# Altium footprint library basic_pcb.PcbLib: 133 footprints (part 2 of 9)
Each footprint in its own frame and in the unit in brackets; x right, y up, seen from the top. Pads: shape width x height; smd on the part's side, far side on the other; paste and mask are expansions set on the pad; w line width, h text height; cw(c..) or ccw(c..) is an arc to the next point about the centre after c.
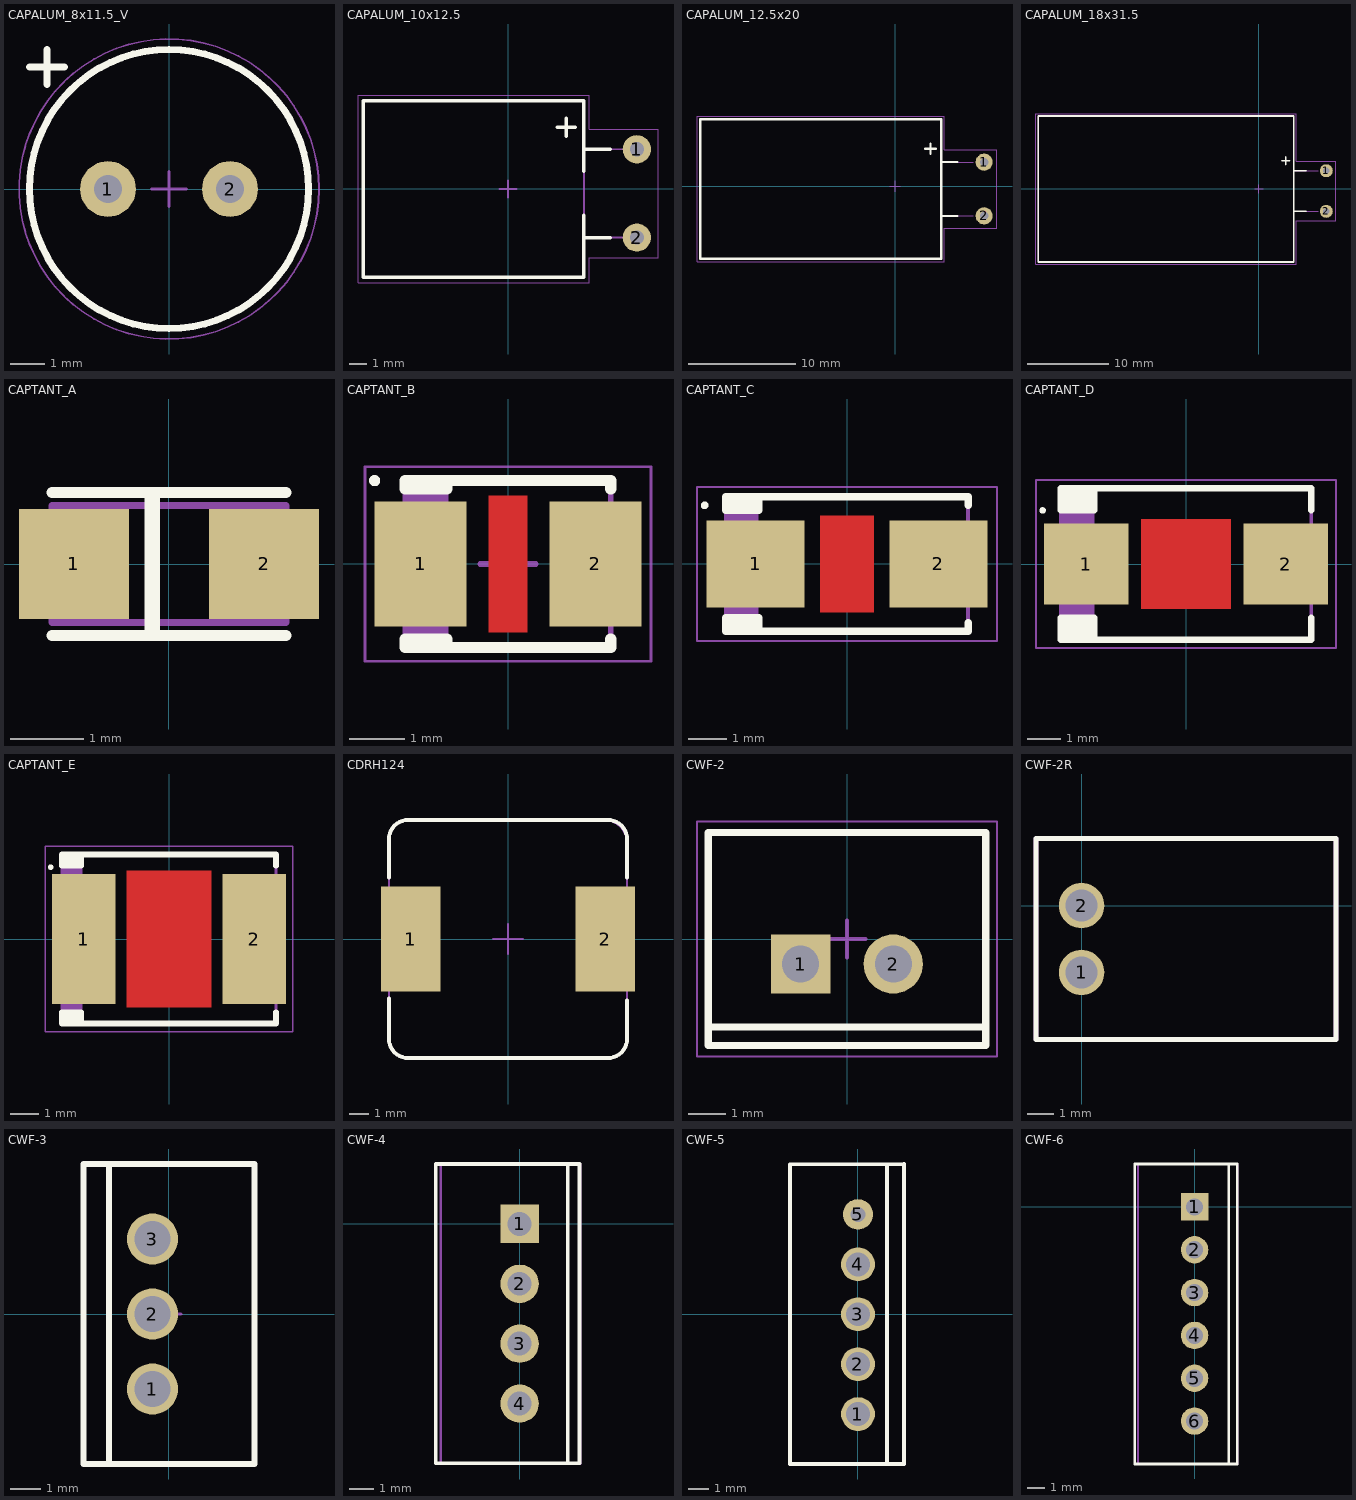
[diagram p1: the footprints below, top view; thin cyan lines are the x and y axes]

## CAPALUM_8x11.5_V [mm] "Ýëåêòðîëèòè÷åñêèé àëþìèíèåâûé êîíäåíñàòîð ñ ðàäèàëüíûìè âûâîäàìè 8*11.5ìì"
height 11.5
pads (2):
  round 1.6 hole 0.8: 1(-1.75,0) 2(1.75,0)
Top Overlay:
  circle w0.2: c0,0 r4
  lines w0.2: -4,3.5 -3,3.5 ; -3.5,3 -3.5,4
Top Value:
  text ".Comment" at -1.722,-1.874 h1.2
Top Designator:
  text ".Designator" at -2.578,1.165 h1.5
Top Component Outline:
  circle w0.1: c0,0 r4
Top Courtyard:
  circle w0.05: c0,0 r4.3
  lines w0.1: -0.5,0 0.5,0 ; 0,-0.5 0,0.5
3D body: height 4.3, standoff 3.7, extent 0.95,-0.3 1.55,0.3
3D body: height 4.3, standoff 3.7, extent -1.55,-0.302 -0.95,0.298
3D body: height 4, standoff -4, extent 0.95,-0.298 1.549,0.3
3D body: height 4, standoff -4, extent -1.55,-0.3 -0.951,0.298
3D body: height 11.5, standoff 0, extent -4,-3.994 4,3.994

## CAPALUM_10x12.5 [mm] "Ýëåêòðîëèòè÷åñêèé àëþìèíèåâûé êîíäåíñàòîð ñ ðàäèàëüíûìè âûâîäàìè 10*12.5ìì"
height 10
pads (2):
  round 1.6 hole 0.8: 1(7.3,2.25) 2(7.3,-2.75)
Top Overlay:
  lines w0.2: 2.798,3.5 3.798,3.5 ; 3.298,3 3.298,4 ; 4.3,-2.75 5.8,-2.75 ; 4.3,-1.5 4.3,-3 4.3,-5 -8.2,-5 -8.2,5 4.3,5 ; 4.3,1 4.3,3 4.3,4.998 ; 4.3,2.25 5.8,2.25
Top Value:
  text ".Comment" at -1.722,-1.474 h1.2
Top Designator:
  text ".Designator" at -2.578,0.865 h1.5
Top Component Outline:
  lines w0.1: -8.2,-4 -8.2,4 ; -7.2,-5 4.3,-5 ; -7.2,5 4.3,5 4.3,-4 ; 4.3,-2.75 7.3,-2.75 ; 4.3,2.25 7.3,2.25
Top Courtyard:
  lines w0.05: -8.5,-5.3 -8.5,5.3 4.6,5.3 4.6,3.4 8.5,3.4 8.5,-3.9 4.6,-3.9 4.6,-5.3 -8.5,-5.3
  lines w0.1: -0.5,0 0.5,0 ; 0,-0.5 0,0.5
3D body: height 9, standoff -1, extent -8.2,-4.993 4.3,4.994
3D body: height 4, standoff -4, extent 7,1.951 7.598,2.55
3D body: height 4, standoff -4, extent 7.002,-3.049 7.6,-2.45
3D body: height 4.3, standoff 3.7, extent 6.998,1.95 7.598,2.55
3D body: height 4.3, standoff 3.7, extent 7,-3.05 7.6,-2.45
3D body: height 4.3, standoff 3.7, extent 4.3,1.951 7.3,2.55
3D body: height 4.3, standoff 3.7, extent 4.3,-3.05 7.3,-2.45

## CAPALUM_12.5x20 [mm] "Ýëåêòðîëèòè÷åñêèé àëþìèíèåâûé êîíäåíñàòîð ñ ðàäèàëüíûìè âûâîäàìè 12.5*20ìì"
height 20
pads (2):
  round 1.6 hole 0.8: 1(8.3,2.25) 2(8.3,-2.75)
Top Overlay:
  lines w0.2: 2.798,3.5 3.798,3.5 ; 3.298,3 3.298,4 ; 4.3,-2.75 5.8,-2.75 ; 4.3,2.25 5.8,2.25 ; 4.3,4.998 4.3,3 4.3,-1.5 4.3,-3 4.3,-5 4.3,-6.75 -8.2,-6.75 -18.15,-6.75 -18.15,-5 -18.15,6.25 -8.2,6.25 4.3,6.25 4.3,5
Top Value:
  text ".Comment" at -1.722,-1.474 h1.2
Top Designator:
  text ".Designator" at -2.578,0.865 h1.5
Top Component Outline:
  lines w0.1: 4.3,-2.75 7.3,-2.75 ; 4.3,2.25 7.3,2.25 ; -18.15,-6.75 -18.15,-4 -18.15,4 -18.15,6.25 -7.2,6.25 4.3,6.25 4.3,5 4.3,-4 4.3,-6.75 -7.2,-6.75 -18.15,-6.75
Top Courtyard:
  lines w0.05: -18.45,-7.05 -18.45,-5.3 -18.45,5.3 -18.45,6.55 -8.5,6.55 4.6,6.55 4.6,5.3 4.6,3.4 9.5,3.4 9.5,-3.9 4.6,-3.9 4.6,-5.3 4.6,-7.05 -8.5,-7.05 -18.45,-7.05
  lines w0.1: -0.5,0 0.5,0 ; 0,-0.5 0,0.5
3D body: height 6.55, standoff 5.95, extent 4.3,-3.049 8.3,-2.45
3D body: height 6.55, standoff 5.95, extent 4.3,1.951 8.3,2.55
3D body: height 6.55, standoff 5.95, extent 8,-3.05 8.6,-2.45
3D body: height 6.55, standoff 5.95, extent 7.998,1.95 8.598,2.55
3D body: height 6.25, standoff -3, extent 8.003,-3.049 8.6,-2.45
3D body: height 6.25, standoff -3, extent 8,1.951 8.598,2.55
3D body "User Library-CapAluRadial_D125H200.STEP": height 12.75, standoff -0.25, extent -18.15,-6.75 6.85,6.25

## CAPALUM_18x31.5 [mm] "Ýëåêòðîëèòè÷åñêèé àëþìèíèåâûé êîíäåíñàòîð ñ ðàäèàëüíûìè âûâîäàìè 18*31.5ìì"
height 19
pads (2):
  round 1.6 hole 0.8: 1(8.3,2.25) 2(8.3,-2.75)
Top Overlay:
  lines w0.2: 2.798,3.5 3.798,3.5 ; 3.298,3 3.298,4 ; 4.3,-2.75 5.8,-2.75 ; 4.3,2.25 5.8,2.25 ; 4.3,4.998 4.3,3 4.3,-1.5 4.3,-3 4.3,-5 4.3,-9 -8.2,-9 -22.725,-9 -27.2,-9 -27.2,-5 -27.2,8.3 -27.2,9 -8.2,9 4.3,9 4.3,5
Top Value:
  text ".Comment" at -1.722,-1.474 h1.2
Top Designator:
  text ".Designator" at -2.578,0.865 h1.5
Top Component Outline:
  lines w0.1: 4.3,-2.75 7.3,-2.75 ; 4.3,2.25 7.3,2.25 ; -27.2,-9 -27.2,-4 -27.2,4 -27.2,9 -7.2,9 4.3,9 4.3,5 4.3,-4 4.3,-9 -7.2,-9 -27.2,-9
Top Courtyard:
  lines w0.05: -27.5,-9.3 -27.5,-5.3 -27.5,5.3 -27.5,9.3 -8.5,9.3 4.6,9.3 4.6,5.3 4.6,3.4 9.5,3.4 9.5,-3.9 4.6,-3.9 4.6,-5.3 4.6,-9.3 -8.5,-9.3 -27.5,-9.3
  lines w0.1: -0.5,0 0.5,0 ; 0,-0.5 0,0.5
3D body: height 18, standoff 0, extent -27.2,-9 4.3,9
3D body: height 9.3, standoff 8.7, extent 4.3,-3.049 8.3,-2.45
3D body: height 9.3, standoff 8.7, extent 4.3,1.951 8.3,2.55
3D body: height 9.3, standoff 8.7, extent 8,-3.05 8.6,-2.45
3D body: height 9.3, standoff 8.7, extent 7.998,1.95 8.598,2.55
3D body: height 9, standoff -3, extent 8.003,-3.049 8.6,-2.45
3D body: height 9, standoff -3, extent 8,1.951 8.598,2.55

## CAPTANT_A [mm]
height 1.6
pads (2):
  rect 1.5x1.5 smd: 1(-1.3,0) 2(1.3,0)
Top Overlay:
  lines w0.15: -1.6,-0.98 1.6,-0.98 ; -1.6,0.98 1.6,0.98 ; -0.26,-0.98 -0.26,0.98 ; -0.2,-0.98 -0.2,0.98
Top Value:
  lines w0.1: -1.5,-0.8 -1.5,0.8 ; -1.4,-0.8 -1.4,0.8 ; -1.3,-0.8 -1.3,0.8 ; -1.6,-0.8 1.6,-0.8 1.6,0.8 -1.6,0.8 -1.6,-0.8
  text ".Comment" at -2.107,-3.074 h1.2
Top Designator:
  text ".Designator" at -2.108,-2.035 h1.5
3D body: height 1.6, standoff 0, extent -1.6,-0.8 1.6,0.8

## CAPTANT_B [mm] "Chip Capacitor, 2-Leads, Body 3,50x2,80mm, IPC Medium Density"
height 2.1
pads (2):
  rect 1.65x2.25 smd: 1(-1.575,0) 2(1.575,0)
Top Layer:
  pour cut-out: -0.35,-1.225 -0.35,1.225 0.35,1.225 0.35,-1.225
Top Overlay:
  circle w0.1: c-2.4,1.5 r0.05
  lines w0.2: -1.1,-1.5 -1.1,-1.35 -1.85,-1.35 -1.85,-1.5 1.85,-1.5 1.85,-1.35 ; -1.1,1.5 -1.1,1.35 -1.85,1.35 -1.85,1.5 1.85,1.5 1.85,1.35
Top Value:
  text ".Comment" at 2.893,-0.274 h1.2
Top Designator:
  text ".Designator" at 2.892,0.765 h1.5
Top Component Outline:
  rectangle: -1.85,-1.5 -1.125,1.5
  lines w0.1: -1.125,-1.5 -1.125,1.475 ; -1.85,-1.5 1.85,-1.5 1.85,1.5 -1.85,1.5 -1.85,-1.5
Top Courtyard:
  lines w0.05: -2.575,-1.75 2.575,-1.75 2.575,1.75 -2.575,1.75 -2.575,-1.75
  lines w0.1: -0.5,0 0.5,0 ; 0,-0.5 0,0.5
3D body "User Library-Tantalum Capacitor Case B.STEP": height 2.09, standoff -0.01, extent -1.845,-1.41 1.845,1.41

## CAPTANT_C [mm] "Molded Capacitor, 2-Leads, Body 6,00x3,20mm, IPC Medium Density"
height 2.8
pads (2):
  rect 2.55x2.25 smd: 1(-2.375,0) 2(2.375,0)
Top Layer:
  pour cut-out: -0.7,-1.25 -0.7,1.25 0.7,1.25 0.7,-1.25
Top Overlay:
  circle w0.1: c-3.7,1.525 r0.05
  rectangle: -3.15,1.4 -2.303,1.75
  rectangle: -3.15,-1.75 -2.303,-1.4
  lines w0.2: -2.303,-1.75 -2.303,-1.4 -3.15,-1.4 -3.15,-1.75 3.15,-1.75 3.15,-1.525 ; -2.303,1.75 -2.303,1.4 -3.15,1.4 -3.15,1.75 3.15,1.75 3.15,1.525
Top Value:
  text ".Comment" at -1.207,-4.074 h1.2
Top Designator:
  text ".Designator" at -1.208,-3.035 h1.5
Top Component Outline:
  rectangle: -3.15,-1.75 -2.303,1.75
  lines w0.1: -3.15,-1.75 3.15,-1.75 3.15,1.75 -3.15,1.75 -3.15,-1.75
Top Courtyard:
  lines w0.05: -3.9,-2 3.9,-2 3.9,2 -3.9,2 -3.9,-2
  lines w0.1: -0.5,0 0.5,0 ; 0,-0.5 0,0.5
3D body "CAPM-TANTC-YEL.stp": height 2.8, standoff 0, extent -3.1,-1.725 3.1,1.675

## CAPTANT_D [mm] "Molded Capacitor, 2-Leads, Body 7,30x4,30mm, IPC Medium Density"
height 3.1
pads (2):
  rect 2.55x2.45 smd: 1(-3.025,0) 2(3.025,0)
Top Layer:
  pour cut-out: -1.35,-1.35 -1.35,1.35 1.35,1.35 1.35,-1.35
Top Overlay:
  circle w0.1: c-4.35,1.625 r0.05
  rectangle: -3.8,1.625 -2.778,2.3
  rectangle: -3.8,-2.3 -2.778,-1.7
  lines w0.2: -2.778,-2.3 -2.778,-1.625 -3.8,-1.625 -3.8,-2.3 3.8,-2.3 3.8,-1.625 ; -2.778,2.3 -2.778,1.625 -3.8,1.625 -3.8,2.3 3.8,2.3 3.8,1.625
Top Value:
  text ".Comment" at -0.507,-4.674 h1.2
Top Designator:
  text ".Designator" at -0.508,-3.635 h1.5
Top Component Outline:
  rectangle: -3.8,-2.3 -2.778,2.3
  lines w0.1: -3.8,-2.3 3.8,-2.3 3.8,2.3 -3.8,2.3 -3.8,-2.3
Top Courtyard:
  lines w0.05: -4.55,-2.55 4.55,-2.55 4.55,2.55 -4.55,2.55 -4.55,-2.55
  lines w0.1: -0.5,0 0.5,0 ; 0,-0.5 0,0.5
3D body "CAPM-TANTD-YEL.stp": height 3.1, standoff 0, extent -3.725,-2.25 3.775,2.25

## CAPTANT_E [mm] "Chip Capacitor, 2-Leads, Body 7,30x4,30mm, IPC Medium Density"
height 4.4
pads (2):
  rect 2.25x4.6 smd: 1(-3.025,0) 2(3.025,0)
Top Layer:
  pour cut-out: -1.5,-2.425 -1.5,2.425 1.5,2.425 1.5,-2.425
Top Overlay:
  circle w0.1: c-4.2,2.55 r0.05
  rectangle: -3.8,-3 -3.125,-2.6
  rectangle: -3.8,2.6 -3.125,3
  lines w0.2: -3.125,-3 -3.125,-2.6 -3.8,-2.6 -3.8,-3 3.8,-3 3.8,-2.6 ; -3.125,3 -3.125,2.6 -3.8,2.6 -3.8,3 3.8,3 3.8,2.6
Top Value:
  text ".Comment" at -0.707,-5.374 h1.2
Top Designator:
  text ".Designator" at -0.708,-4.335 h1.5
Top Component Outline:
  rectangle: -3.8,-3 -3.125,3
  lines w0.1: -3.125,-3 -3.125,3 ; -3.8,-3 -3.8,3 3.8,3 3.8,-3 -3.8,-3
Top Courtyard:
  lines w0.05: -4.4,-3.3 -4.4,3.3 4.4,3.3 4.4,-3.3 -4.4,-3.3
  lines w0.1: -0.5,0 0.5,0 ; 0,-0.5 0,0.5
3D body "User Library-CaseE_7260-38.step": height 3.6, standoff 0, extent -3.65,-3 3.65,3

## CDRH124 [mm]
pads (2):
  rect 3x5.3 smd: 1(-4.9,0) 2(4.9,0)
Top Overlay:
  lines w0.2: -6,-3 -6,-5 ccw(c-5,-5) -5,-6 5,-6 ccw(c5,-5) 6,-5 6,-3.1 ; -6,3.1 -6,5 cw(c-5,5) -5,6 5,6 cw(c5,5) 6,5 6,3.1
Top Value:
  text ".Comment" at -1.722,-1.474 h1.2
Top Designator:
  text ".Designator" at -2.578,0.865 h1.5
Top Component Outline:
  lines w0.1: -6,-5 ccw(c-5,-5) -5,-6 5,-6 ccw(c5,-5) 6,-5 6,-3.1 6,3.1 6,4.81 ccw(c4.81,4.81) 4.81,6 -5,6 ccw(c-5,5) -6,5 -6,3.1 -6,-3 -6,-5
Top Courtyard:
  lines w0.05: -6,-5 ccw(c-5,-5) -5,-6 5,-6 ccw(c5,-5) 6,-5 6,-3.1 6,3.1 6,4.81 ccw(c4.81,4.81) 4.81,6 -5,6 ccw(c-5,5) -6,5 -6,3.1 -6,-3 -6,-5
  lines w0.1: -0.75,0 0.75,0 ; 0,-0.75 0,0.75
3D body "User Library-CDRH124_Sumida.STEP": height 4.6, standoff 0.05, extent -6.1,-6.15 6.2,6.15

## CWF-2 [mm]
height 6
pads (2):
  rect 1.6x1.6 hole 1: 1(-1.25,-0.675)
  round 1.6 hole 1: 2(1.25,-0.675)
Top Overlay:
  lines w0.2: -3.75,-2.375 3.75,-2.375 ; -3.75,-2.875 -3.75,2.875 3.75,2.875 3.75,-2.875 -3.75,-2.875
Top Value:
  text ".Comment" at -1.722,0.626 h1.2
Top Designator:
  text ".Designator" at -2.578,1.665 h1.5
Top Component Outline:
  lines w0.1: -3.75,-2.375 3.75,-2.375 ; -3.75,2.875 -3.75,-2.875 3.75,-2.875 3.75,2.875 ; -3.75,2.875 3.75,2.875 ; -3.75,2.875 3.75,2.875
Top Courtyard:
  lines w0.05: -4.05,-3.175 4.05,-3.175 4.05,3.175 -4.05,3.175 -4.05,-3.175
  lines w0.1: -0.5,0 0.5,0 ; 0,-0.5 0,0.5
3D body "User Library-CWF-2.STEP": height 7, standoff -3.5, extent -3.75,-2.875 3.75,2.875

## CWF-2R [mm]
pads (2):
  round 1.7 hole 1.2: 1(0,-2.5) 2(0,0)
Top Overlay:
  lines w0.2: -1.7,-5 -1.7,2.5 9.5,2.5 9.5,-5 -1.7,-5
Top Value:
  text ".Comment" at 2.236,-2.152 h1.52
Top Designator:
  text ".Designator" at 1.808,-0.928 h1.52
Top Component Outline:
  lines w0.2: -1.7,-5 9.5,-5 9.5,2.5 -1.7,2.5 -1.7,-5
3D body "CWF_2_H.STEP": height 5.7, standoff -1.5, extent -1.55,-4.975 9.35,2.525

## CWF-3 [mm]
pads (3):
  round 1.7 hole 1.2: 1(-0.55,-2.5) 2(-0.55,0) 3(-0.55,2.5)
Top Overlay:
  lines w0.2: -2,-5 -2,5 ; -2.85,-5 2.85,-5 2.85,5 -2.85,5 -2.85,-5
Top Value:
  text ".Comment" at -2.907,-7.174 h1.2
Top Designator:
  text ".Designator" at -2.908,-6.135 h1.5
Top Courtyard:
  lines w0.1: -0.4,0 0.4,0 ; 0,-0.4 0,0.4
  lines w0.102: -2.85,-5 2.85,-5 2.85,5 -2.85,5 -2.85,-5
3D body "CWF_3_V.STEP": height 7.7, standoff -1, extent -2.9,-5 2.8,5

## CWF-4 [mm]
height 6
pads (4):
  rect 1.6x1.6 hole 1: 1(0,0)
  round 1.6 hole 1: 2(0,-2.5) 3(0,-5) 4(0,-7.5)
Top Overlay:
  lines w0.15: 2,-10 2,2.5 ; -3.5,-10 2.5,-10 2.5,2.5 -3.5,2.5 -3.5,-10
Top Value:
  text ".Comment" at -3.507,-12.174 h1.2
Top Designator:
  text ".Designator" at -3.508,-11.135 h1.5
Top Component Outline:
  lines w0.1: 2,-10 2,2.5 ; -3.3,-10 2.5,-10 2.5,2.5 -3.3,2.5 -3.3,-10
Top Courtyard:
  lines w0.1: -3.5,-10.025 2.527,-10.025 2.527,2.5 -3.5,2.5 -3.5,-10.025
3D body "User Library-CWF-4.STEP": height 7, standoff -3.5, extent -3.55,-9.95 2.2,2.45

## CWF-5 [mm]
pads (5):
  round 1.7 hole 1.2: 1(0,-5) 2(0,-2.5) 3(0,0) 4(0,2.5)
  round 1.524 hole 0.762: 5(0,5)
Top Overlay:
  lines w0.2: 1.45,-7.5 1.45,6.9 1.45,7.5 ; -3.4,-7.5 -3.4,6.9 -3.4,7.5 2.3,7.525 2.3,6.9 2.3,-7.5 -3.4,-7.5
Top Value:
  text ".Comment" at -3.407,-9.674 h1.2
Top Designator:
  text ".Designator" at -3.408,-8.635 h1.5
Top Courtyard:
  lines w0.1: -0.4,0 0.4,0 ; 0,-0.4 0,0.4
  lines w0.102: -3.4,-7.5 -3.4,7.525 2.3,7.525 2.3,-7.5 -3.4,-7.5
3D body "User Library-DS1069-5 CWF-5.step": height 7, standoff -3.5, extent -3.45,-7.5 2.3,7.5

## CWF-6 [mm]
height 6
pads (6):
  rect 1.6x1.6 hole 1: 1(0,0)
  round 1.6 hole 1: 2(0,-2.5) 3(0,-5) 4(0,-7.5) 5(0,-10) 6(0,-12.5)
Top Overlay:
  lines w0.15: 2,-15 2,2.5 ; -3.5,-15 -3.5,2.5 2.5,2.5 2.5,-15 -3.5,-15
Top Value:
  lines w0.1: 2,-15 2,2.5 ; -3.3,-15 2.5,-15 2.5,2.5 -3.3,2.5 -3.3,-15
  text ".Comment" at -3.507,-17.174 h1.2
Top Designator:
  text ".Designator" at -3.508,-16.135 h1.5
3D body "User Library-CWF-6.STEP": height 7, standoff -3.5, extent -3.525,-15 2.225,2.5